# EAGLE library part 520243-3 (library con-amp)
AMP connector
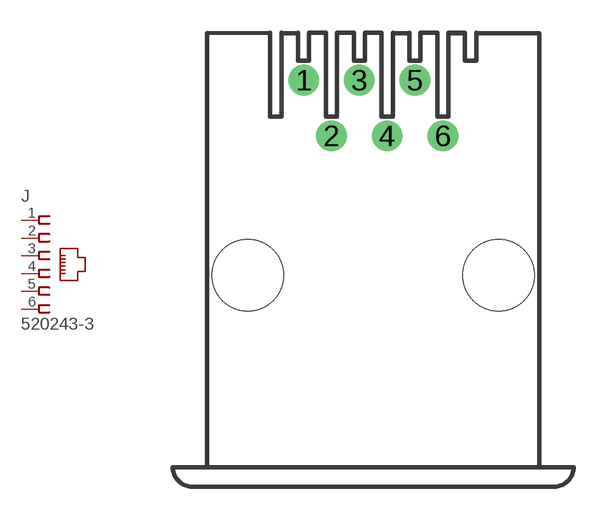
[diagram p25: symbol with the pads of 520243-3; footprint 520243-3]

Designator prefix J

## 520243-3  [520243-3]
1  1  pas
2  2  pas
3  3  pas
4  4  pas
5  5  pas
6  6  pas

## Footprint 520243-3 (pad centres in mm)
Modular Jack with Flanged
drill 0.889: 1 -3.175,8.89; 2 -1.905,6.35; 3 -0.635,8.89; 4 0.635,6.35; 5 1.905,8.89; 6 3.175,6.35
hole 3.251 at -5.715,0
hole 3.251 at 5.715,0